# Altium footprint library PT_2PIN_2.54mm.PcbLib: 1 footprints
Each footprint in its own frame and in the unit in brackets; x right, y up, seen from the top. Pads: shape width x height; smd on the part's side, far side on the other; paste and mask are expansions set on the pad; w line width, h text height; cw(c..) or ccw(c..) is an arc to the next point about the centre after c.
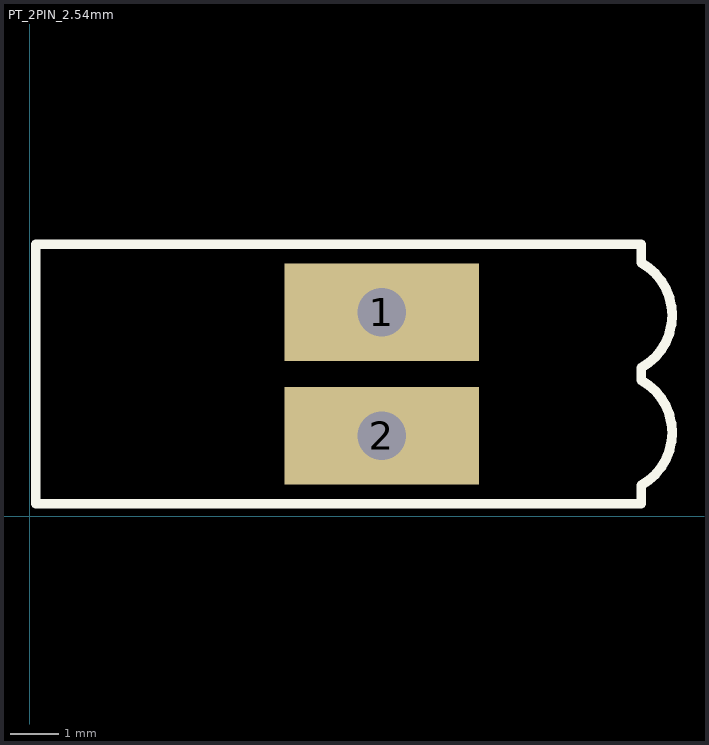
[diagram p0: the footprint, top view; thin cyan lines are the x and y axes]

## PT_2PIN_2.54mm [mm]
pads (2):
  rect 4x2 hole 1: 1(7.239,4.191) 2(7.239,1.651)
Top Overlay:
  lines w0.2: 0.127,0.254 0.127,5.588 12.446,5.588 12.573,5.588 12.573,5.207 cw(c11.976,4.127) 12.573,3.048 12.573,2.794 cw(c11.976,1.714) 12.573,0.635 12.573,0.254 0.127,0.254